# EAGLE library part TPS78533QWDRBRQ1 (library TPS78533QWDRBRQ1)
LDO Voltage Regulators Automotive, 1-A, high-accuracy, adjustable low-dropout (LDO) linear regulator Source: Datasheet <https://www.arrow.com/en/products/tps78533qwdrbrq1/texas-instruments?region=nac>
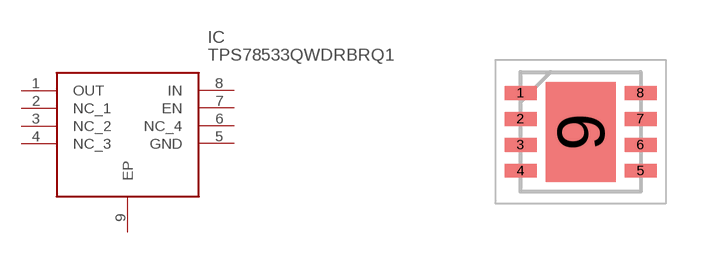
[diagram p0: symbol with the pads of SON65P300X300X100-9N; footprint SON65P300X300X100-9N]

Designator prefix IC

## TPS78533QWDRBRQ1 (Description: LDO Voltage Regulators Automotive, 1-A, high-accuracy, adjustable low-dropout (LDO) linear regulator; Height: 1mm; Manufacturer_Name: Texas Instruments; Manufacturer_Part_Number: TPS78533QWDRBRQ1; Mouser_Part_Number: 595-TPS78533QWDRBRQ1; Mouser_Price-Stock: https://www.mouser.co.uk/ProductDetail/Texas-Instruments/TPS78533QWDRBRQ1?qs=iLbezkQI%252BsiNbdqh2Ko9GQ%3D%3D)  [SON65P300X300X100-9N]
1  OUT
2  NC_1
3  NC_2
4  NC_3
5  GND
6  NC_4
7  EN
8  IN
9  EP

## Footprint SON65P300X300X100-9N (pad centres in mm)
DRB0008J
smd 0.8 x 0.35: 1 -1.5,0.975; 2 -1.5,0.325; 3 -1.5,-0.325; 4 -1.5,-0.975; 5 1.5,-0.975; 6 1.5,-0.325; 7 1.5,0.325; 8 1.5,0.975
smd 1.75 x 2.5: 9 0,0